# Altium integrated library Antennas.IntLib: 29 symbols
Pins are listed as number, name and electrical type; pins without a type are passive.

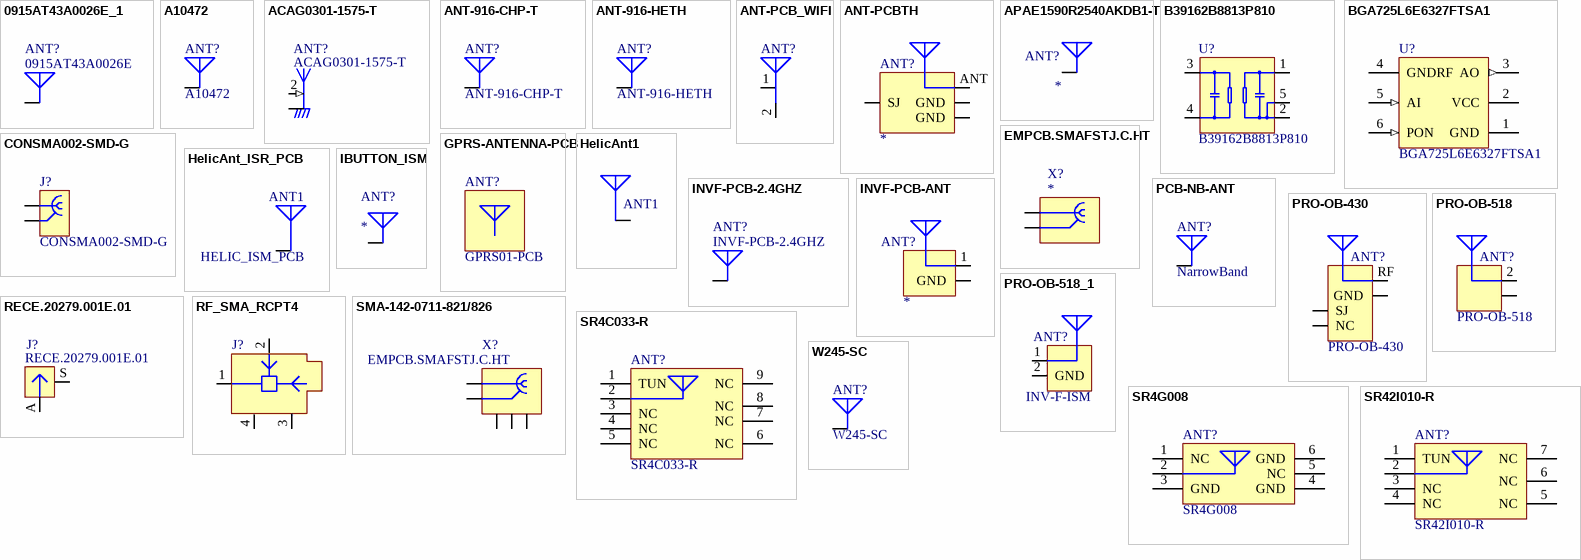
[diagram p0: symbols 0915AT43A0026E_1 to W245-SC]

## 0915AT43A0026E_1
designator ANT?, comment 0915AT43A0026E
JOHANSON TECHNOLOGY         0915AT43A0026E             ANTENNA, CERAMIC, 915MHZ; Frequency: 915; Impedance: 50; Power Rating: 2; Number of Bands: 1; Return Loss: -8.5; Gain: -4; Supplier 1: Digikey; Manufacturer: Johanson Technology; Manufacturer Part Number: 0915AT43A0026E; Stock 1: 220044; Pricing 1: 1=0.92, 10=0.814, 25=0.7356, 100=0.6435, 250=0.5647, 500=0.499 (USD); Case/Package: Ceramic; Package Quantity: 1; Packaging: Tape and Reel; Max Power Dissipation: 2; Termination: Solder; Length: 7; Height: 0.031; Width: 2; REACH SVHC: Unknown; ComponentLink1URL: https://datasheet.ciiva.com/24023/0915at43a0026-242364-24023185.pdf; ComponentLink1Description: https://datasheet.ciiva.com/24023/0915at43a0026-242364-24023185.pdf; ComponentLink2URL: https://datasheet.ciiva.com/1124/1318299-1124915.pdf; ComponentLink2Description: https://datasheet.ciiva.com/1124/1318299-1124915.pdf; Supplier Part Number 1: 712-1535-6-ND; Value: 0915AT43A0026E
footprint 0915AT43A0026E (RF CHIP ANTENNA 902 - 928MHZ)
pins: 1

## A10472
designator ANT?
Antennas KIRBii 868/915 MHz Chip Antenna; Manufacturer: Antenova; Frequency: 868 MHz, 915 MHz; Impedance: 50 Ohms; Polarization: Linear; Gain: 0.7 dB, 1.6 dB; VSWR: 1.2 : 1, 2.1 : 1; For Use With: ISM Applications; Product Status: Not Recommended for New Designs; Supplier 1: Mouser; Manufacturer Part Number: A10472; Category: Antennas; Stock 1: 4227; Pricing 1: 1=2.29, 10=1.85, 100=1.48, 500=1.30, 1000=1.04, 2500=0.969, 5000=0.933, 10000=0.897 (USD); Application: Remote monitoring, Sensors; Bandwidth: -; Cable Length: -; Diameter: -; Height: 3.2 mm; Length: 10 mm; Packaging: Cut Tape; Power Rating: -; Product: PCB Antenna; Series: Kirbii; Technology: Chip Antenna; Termination Style: SMD/SMT; Type: Ceramic; Width: 2 mm; Brand: Antenova; Mounting Style: SMD/SMT; Antenna Connector Type: -; Maximum Operating Temperature: + 85 C; Minimum Operating Temperature: - 40 C; Standard Pack Qty: 2500; Tradename: gigaNOVA; Minimum Order Quantity: 1; Reeling: True; ComponentLink1URL: http://www.mouser.com/ds/2/23/Kirbii-A10472-PS-5.1-1068327.pdf; ComponentLink1Description: http://www.mouser.com/ds/2/23/Kirbii-A10472-PS-5.1-1068327.pdf; Value: A10472; Supplier Part Number 1: 237-A10472
footprint A10472 (KIRBii 868/915 MHz Chip Antenna)
pins: 1

## ACAG0301-1575-T
designator ANT?
Antenna Chip 4.18dBi Gain 2-Pin Chip T/R; Manufacturer 1: Abracon; Number of Bands: 1; Supplier 1: Digi-Key; Manufacturer Part Number 1: ACAG0301-1575-T; Stock 1: 1272; Pricing 1: 1=1,36000, 10=1,21500, 25=1,15360, 100=0,94760, 250=0,88580, 500=0,78280, 1000=0,61800 (USD); RoHS: No; Mount: Surface Mount; Packaging: Cut Tape; Termination: Solder; ComponentLink1URL: https://abracon.com/datasheets/ACAG0301-1575-T.pdf?src-supplier=Digi-Key; ComponentLink1Description: https://abracon.com/datasheets/ACAG0301-1575-T.pdf?src-supplier=Digi-Key; Supplier Part Number 1: 535-14486-1-ND; Value: ACAG0301-1575-T
footprint ANT-ACAG0301-1575-T
pins: 1 2 (power), 2 1 (in), 3 2 (power)

## ANT-916-CHP-T
designator ANT?
CHIP 916MHZ CERAMIC SMD; Manufacturer: Linx Technologies Inc.; Frequency Group: UHF (300 MHz ~ 1 GHz); Frequency Range: 911MHz ~ 921MHz; VSWR: 2; Gain: 0.5dBi; Supplier 1: Digi-Key; Manufacturer Part Number: ANT-916-CHP-T; RoHS: RoHS Compliant; Category: RF/IF and RFID; Stock 1: 10496; Pricing 1: 1=4.96, 10=4.429, 25=3.986, 100=3.6318, 250=3.27748, 500=2.94086, 1000=2.48024 (USD); Packaging: Cut Tape (CT); Part Status: Active; Frequency (Center/Band): 916MHz; Antenna Type: Chip; Return Loss: -; Features: -; Termination: Solder; Ingress Protection: -; Mounting Type: Surface Mount; Height (Max): 0.067" (1.70mm); Applications: Bluetooth, Wi-Fi, Zigbee™; ComponentLink1URL: https://www.linxtechnologies.com/resources/data-guides/ant-xxx-chp-x.pdf; ComponentLink1Description: https://www.linxtechnologies.com/resources/data-guides/ant-xxx-chp-x.pdf; Supplier Part Number 1: ANT-916-CHP-TCT-ND; Value: ANT-916-CHP-T
footprint ANT-916-CHP-T (CHIP 916MHZ CERAMIC SMD)
pins: 1

## ANT-916-HETH
designator ANT?
ANTENNA 916MHZ THRU HOLE; Manufacturer: Linx; Bandwidth: 10MHz; Number of Bands: 1; Supplier 1: Digi-Key; Manufacturer Part Number: ANT-916-HETH; Stock 1: 7824; Pricing 1: 1=1.04, 25=0.96, 100=0.876 (USD); Mount: Through Hole; Frequency: 916MHz; Package Quantity: 100; Packaging: Bulk; Termination: Solder; Length: 1.5inch; Height: 0.35inch; Lead Free: Lead Free; ComponentLink1URL: http://www.antennafactor.com/resources/data-guides/ant-xxx-hexx.pdf; ComponentLink1Description: http://www.antennafactor.com/resources/data-guides/ant-xxx-hexx.pdf; ComponentLink2URL: https://www.linxtechnologies.com/resources/data-guides/ant-916-heth.pdf; ComponentLink2Description: https://www.linxtechnologies.com/resources/data-guides/ant-916-heth.pdf; ComponentLink3URL: https://www.linxtechnologies.com/resources/data-guides/ant-xxx-hexx.pdf; ComponentLink3Description: https://www.linxtechnologies.com/resources/data-guides/ant-xxx-hexx.pdf; Value: ANT-916-HETH; Supplier Part Number 1: ANT-916-HETH-ND
footprint ANT-916-HETH
footprint ANT-916-HETH - 90
footprint ANT-916-HETH - 90 - VERTICAL
pins: 1

## ANT-PCB_WIFI
designator ANT?, comment WifiEmbedded  (value not drawn)  (net tie, no BOM)
Antenna WiFi Embedded; Populated: No; Value: WifiEmbedded; ROHS: Yes
footprint ANT_SHADOW (Footprint not found)
pins: 1, 2

## ANT-PCBTH
designator ANT?
Internal PCB Cellular Antenna; Manuf1: Colcircuitos; Manuf1Partnumber: THRON-ANT-PCB; Populated: Yes; Value: *; ClassName: *; ROHS: Yes; HelpURL: *
footprint CANT
footprint CANT-R
footprint CANT - SMD
footprint GPRS_ANTENNA-PCB - IB1
pins: ANT, GS1 GND, GS2 GND, S SJ

## APAE1590R2540AKDB1-T
designator ANT?
GPS GLONASS PATCH 1575.42MHZ; Manufacturer: Abracon; Manufacturer Part Number: APAE1590R2540AKDB1-T; Impedance: 50R; Frequency: 1.608GHz; Bandwidth: 35MHz; Number of Bands: 2; Return Loss: -8dB; Supplier 1: Digi-Key; Stock 1: 8296; Pricing 1: 1=1.96, 10=1.772, 25=1.5824, 100=1.4243, 250=1.266, 500=1.1078, 1000=0.9179, 2500=0.8546, 5000=0.8229 (USD); Mount: Adhesive; Package Quantity: 50; Packaging: Tray; Resistance: 50R; Termination: Pin; Max Frequency: 1.608GHz; Length: 25mm; Height: 0.157inch; Width: 25mm; Radiation Hardening: No; Lead Free: Lead Free; ComponentLink1URL: https://datasheet.ciiva.com/6492/apae1590r2540akdb1-t-6492483.pdf; ComponentLink1Description: https://datasheet.ciiva.com/6492/apae1590r2540akdb1-t-6492483.pdf; ComponentLink2URL: https://datasheet.ciiva.com/12398/apae1590r2540akdb1-t-218145-12398375.pdf; ComponentLink2Description: https://datasheet.ciiva.com/12398/apae1590r2540akdb1-t-218145-12398375.pdf; Supplier Part Number 1: 535-11940-ND
footprint APAE1590R2540AKDB1-T
pins: 1

## B39162B8813P810
designator U?
SAW Filter 1582.47MHz 50Ohm SMD 5-Pin SMD; Manufacturer: TDK EPCOS; Load Impedance: 50R; Supplier 1: Digi-Key; Supplier Part Number 1: 495-7022-1-ND; Manufacturer Part Number: B39162B8813P810; Stock 1: 0; Mount: Surface Mount; Number of Pins: 5; Contact Plating: Nickel,Gold; Min Operating Temperature: -30°C; Max Operating Temperature: 85°C; Packaging: Tape and Reel; Length: 1.1mm; Radiation Hardening: No; Lead Free: Lead Free; ComponentLink1URL: http://www.epcos.com/inf/40/ds/mc/B8813.pdf; ComponentLink1Description: http://www.epcos.com/inf/40/ds/mc/B8813.pdf; Value: B39162B8813P810
footprint B39162B8813P810 (SAW GPS Filter)
pins: 1 INPUT, 2 GND, 3 GND, 4 OUTPUT, 5 GND

## BGA725L6E6327FTSA1
designator U?
GPS Amp Single Low Noise 1.615GHz 3.6V 6-Pin TSLP T/R; Manufacturer: Infineon; Max Power Dissipation: 72mW; Gain: 20dB; Frequency: -1.615GHz; Supplier 1: Digi-Key; Supplier Part Number 1: BGA725L6E6327FTSA1DKR-ND; Manufacturer Part Number: BGA725L6E6327FTSA1; Stock 1: 23538; Pricing 1: 1=0.4, 10=0.352, 25=0.3176, 100=0.2778, 250=0.2438, 500=0.21546, 1000=0.1701, 5000=0.15082 (USD); Number of Pins: 6; Package Quantity: 15000; Packaging: Tape and Reel; REACH SVHC: No SVHC; Lead Free: Lead Free; ComponentLink1URL: http://components.arrow.com/part/dataview/0323_05982851; ComponentLink1Description: http://components.arrow.com/part/dataview/0323_05982851; ComponentLink2URL: https://www.infineon.com/dgdl/BGA725L6_V2+0.pdf?folderId=db3a30431f848401011fcbf2ab4c04c4&fileId=db3a30433784a0400137ef9a4d341f23; ComponentLink2Description: https://www.infineon.com/dgdl/BGA725L6_V2+0.pdf?folderId=db3a30431f848401011fcbf2ab4c04c4&fileId=db3a30433784a0400137ef9a4d341f23; ComponentLink3URL: http://www.mouser.com/ds/2/196/BGA725L6_V2%200-360310.pdf; ComponentLink3Description: http://www.mouser.com/ds/2/196/BGA725L6_V2%200-360310.pdf; ComponentLink4URL: https://www.infineon.com/dgdl/Infineon-BGA725L6-DS-v02_00-en.pdf?fileId=db3a30433784a0400137ef9a4d341f23; ComponentLink4Description: https://www.infineon.com/dgdl/Infineon-BGA725L6-DS-v02_00-en.pdf?fileId=db3a30433784a0400137ef9a4d341f23; Value: BGA725L6E6327FTSA1
footprint TSLP-6-2 (TSLP 6-Leads, Body 0,70x1,10mm, Pitch 0,40mm, IPC High Density)
pins: 1 GND, 2 VCC, 3 AO (out), 4 GNDRF, 5 AI (in), 6 PON (in)

## CONSMA002-SMD-G
designator J?
CONSMA002-SMD-G Unchecked RF Connectors / Coaxial Connectors SMA Female Right Angle SMD-Gold RF / Coaxial Connectors 4,16000; Body Material: Brass; Body Plating: Gold; Connector Type: SMA,Socket; Dielectric Material: PTFE; Gender: Male; Impedance: 50R; Insulation Resistance: 5GR; Max Frequency: 18GHz; Polarity: Standard; Voltage Rating: 500V; Case/Package: SMA; Contact Material: Copper; Contact Plating: Gold; Fastening Type: Threaded; Housing Color: Gold; Lead Free: Lead Free; Max Operating Temperature: 165°C; Min Operating Temperature: -65°C; Mount: Surface Mount; Orientation: Right Angle; Package Quantity: 100; Packaging: Tray; Termination: Solder; Value: CONSMA002-SMD-G
footprint CONSMA002 - SMD (CONN SMA JACK STR 50 OHM PCB)
footprint CONSMA002 - SMD(V2) (CONN SMA JACK STR 50 OHM PCB)
pins: 1 (power), 2

## EMPCB.SMAFSTJ.C.HT
designator X?
CONN SMA JACK STR EDGE MNT; Manufacturer: Taoglas; Manufacturer Part Number: EMPCB.SMAFSTJ.C.HT; Body Material: Brass; Plating: Nickel; Dielectric Material: PTFE; Impedance: 50R; Voltage Rating: 335V; Connector Type: SMA,Socket; Polarity: Standard; Max Frequency: 12.4GHz; Insulation Resistance: 5GR; Supplier 1: Digi-Key; Stock 1: 1022; Pricing 1: 1=3.03, 100=2.961, 500=2.772, 1000=2.583, 2500=2.4045 (USD); Mount: Edge; Case/Package: SMA; Contact Material: Brass; Contact Plating: Gold; Body Plating: Nickel; Housing Colour: Silver; Package Quantity: 500; Fastening Type: Threaded; Packaging: Tray; Termination: Solder; Orientation: Straight; Frequency: 12.4GHz; ComponentLink1URL: https://datasheet.ciiva.com/12398/empcb-smafstj-c-ht-30838-12398136.pdf; ComponentLink1Description: https://datasheet.ciiva.com/12398/empcb-smafstj-c-ht-30838-12398136.pdf; ComponentLink2URL: https://datasheet.ciiva.com/7002/empcb-smafstj-c-ht-7002218.pdf; ComponentLink2Description: https://datasheet.ciiva.com/7002/empcb-smafstj-c-ht-7002218.pdf; Supplier Part Number 1: 931-1174-ND
footprint EMPCB.SMAFSTJ.C.HT
footprint 5-1814832-1 (CONN SMA JACK STR 50 OHM PCB)
pins: 1 GND (power), 2 1

## GPRS-ANTENNA-PCB
designator ANT?, comment GPRS01-PCB
Populated: Yes; Value: GPRS01-PCB
footprint GPRS_ANTENNA-PCB
footprint GPRS_ANTENNA-PCB-R
footprint GPRS_ANTENNA-PCB - SMD

## HelicAnt1
designator ANT1
footprint HELIC1
pins: 1 ANT

## HelicAnt_ISR_PCB
designator ANT1, comment HELIC_ISM_PCB
Value: HELIC_ISM_PCB
footprint HELIC_868/915 PCB
pins: 1 ANT

## IBUTTON_ISM
designator ANT?
footprint IBUTTON_ISM1
footprint IBUTTON_ISM2
footprint IBUTTON_ISM3
pins: 1

## INVF-PCB-2.4GHZ
designator ANT?  (no BOM)
INV-F PCB 2.4GHz; Case/Package: PCB; Frequency: 2.4Ghz; ComponentLink1URL: https://datasheet.ciiva.com/24023/0915at43a0026-242364-24023185.pdf; ComponentLink1Description: https://datasheet.ciiva.com/24023/0915at43a0026-242364-24023185.pdf; ComponentLink2URL: https://datasheet.ciiva.com/1124/1318299-1124915.pdf; ComponentLink2Description: https://datasheet.ciiva.com/1124/1318299-1124915.pdf; Value: INVF-PCB-2.4GHZ
footprint INVF_2.4GHz
pins: 1

## INVF-PCB-ANT
designator ANT?
Internal PCB Cellular Antenna; Manuf1: Colcircuitos; Manuf1Partnumber: INVF-PCB-ANT; Populated: Yes; Value: *; ClassName: *; ROHS: Yes; HelpURL: *
footprint INV-F-PCB-ISM (Inverted F Antenna 868/915 MHz)
pins: 1 ANT, 2 GND

## PCB-NB-ANT
designator ANT?, comment NarrowBand
Narrow Band antenna; Value: NarrowBand
footprint PCB_NB
pins: 1

## PRO-OB-430
designator ANT?
IC ANTENNA ONBOARD GPS SMD; Manufacturer: Proant AB; Frequency Group: UHF (1 GHz ~ 2 GHz); Frequency (Center/Band): 1.575GHz, 1.602GHz; Frequency Range: 1.575GHz ~ 1.602GHz; Antenna Type: Stamped Metal; Return Loss: -10dB; Manufacturer Part Number: PRO-OB-430; RoHS: RoHS Compliant; Category: RF/IF and RFID; Packaging: Cut Tape (CT); Part Status: Active; VSWR: -; Gain: -; Power - Max: -; Features: -; Termination: Solder; Ingress Protection: -; Mounting Type: Surface Mount; Height (Max): 0.130" (3.30mm); Applications: GLONASS, GPS; ComponentLink1URL: http://www.proant.se/files/user/Datasheet%20-%20OnBoard%20SMD%20GNSS%20rev%202.0.pdf; ComponentLink1Description: http://www.proant.se/files/user/Datasheet%20-%20OnBoard%20SMD%20GNSS%20rev%202.0.pdf; Value: PRO-OB-430; Supplier 1: Digi-Key; Supplier Part Number 1: 1532-1000-1-ND
footprint PRO-OB-430 (IC ANTENNA ONBOARD GPS SMD)
footprint PRO-OB-430 - duplicate
pins: GND, NC, NC1 SJ, RF ANT

## PRO-OB-518
designator ANT?
ON-BOARD ANT ISM 848/2400MHZ SMD; Manufacturer: Proant AB; Frequency Group: UHF (300 MHz ~ 1 GHz), UHF (2 GHz ~ 3 GHz); Frequency (Center/Band): 868MHz, 2.4GHz; Frequency Range: 860MHz ~ 870MHz, 2.4GHz ~ 2.5GHz; Antenna Type: Stamped Metal; Return Loss: -6dB; Supplier 1: Digi-Key; Manufacturer Part Number: PRO-OB-518; RoHS: RoHS Compliant; Category: RF/IF and RFID; Stock 1: 250; Pricing 1: 250=1.04884, 500=0.92688, 750=0.8098, 1250=0.73174, 2500=0.68296, 6250=0.64881, 12500=0.62442 (USD); Packaging: Tape & Reel (TR); Part Status: Active; VSWR: -; Gain: -; Power - Max: -; Features: -; Termination: Solder; Ingress Protection: -; Mounting Type: Surface Mount; Height (Max): 0.197" (5.00mm); Applications: 6LoWPAN, ZigBee™; ComponentLink1URL: http://www.proant.se/files/user/Datasheet%20-%20OnBoard%20SMD%20868-2400%20MHz%20rev%201.0.pdf; ComponentLink1Description: http://www.proant.se/files/user/Datasheet%20-%20OnBoard%20SMD%20868-2400%20MHz%20rev%201.0.pdf; Supplier Part Number 1: 1532-1015-2-ND; Value: PRO-OB-518
footprint PRO-OB-518 (Onboard™ SMD 868/2400 MHz Antenna)
pins: 1, 2 RF

## PRO-OB-518_1
designator ANT?, comment INV-F-ISM
868 MHz, 915 MHz and 955 MHz Inverted F Antenna PCB; Manufacturer: Colcircuitos; Frequency Group: UHF (300 MHz ~ 1 GHz), UHF (2 GHz ~ 3 GHz); Frequency Range: 860MHz ~ 870MHz, 2.4GHz ~ 2.5GHz; Antenna Type: PCB Inv-F; Manufacturer Part Number: INV-F-ISM; RoHS: RoHS Compliant; Frequency (Center/Band): 868MHz, 915MHz; Mounting Type: Surface Mount; Applications: ISM/SigFox/LoRa; Value: INV-F-ISM
footprint INV-F-PCB-ISM (Inverted F Antenna 868/915 MHz)
pins: 1 RF, 2 GND

## RECE.20279.001E.01
designator J?
CONN UMC RCPT STR 50 OHM SMD; Manufacturer: Taoglas Limited; Connector Style: Ultra Miniature Coaxial, IPEX MHF1; Connector Type: Receptacle, Male Pin; Contact Termination: Solder; Impedance: 50 Ohm; Frequency - Max: 6GHz; Body Material: Brass; Body Finish: Gold; Dielectric Material: Liquid Crystal Polymer (LCP); Supplier 1: Digi-Key; Manufacturer Part Number: RECE.20279.001E.01; RoHS: RoHS Compliant; Category: Connectors, Interconnects; Stock 1: 44996; Pricing 1: 1=0.77 (USD); Packaging: Cut Tape (CT); Part Status: Active; Shield Termination: Solder; Mounting Type: Surface Mount; Mounting Feature: -; Cable Group: -; Fastening Type: Snap-On; Features: -; Housing Color: White; Ingress Protection: -; Includes: -; Center Contact Plating: Gold; Operating Temperature: -40°C ~ 90°C; Center Contact Material: Brass; Voltage Rating: -; Mating Cycles: -; Insertion Loss: -; ComponentLink1URL: http://www.taoglas.com/wp-content/uploads/2016/04/RECE.20279.001E.01.pdf; ComponentLink1Description: http://www.taoglas.com/wp-content/uploads/2016/04/RECE.20279.001E.01.pdf; Supplier Part Number 1: 931-1107-1-ND; Value: RECE.20279.001E.01
footprint IPEX
pins: A, S

## RF_SMA_RCPT4
designator J?, comment MM8030-2610RJ3  (value not drawn)
Conn, Coax, Switch, Rcpt, 2 x 2mm, SMD; Manuf1: Murata; Populated: Yes; Supplier 1: Digi-Key; Supplier Part Number 1: 490-5907-1-ND; Supplier Price 1: 0.2448; ComponentLink1URL: http://www.digikey.com/product-detail/en/MM8030-2610RJ3/490-5907-1-ND/3635133; Manuf1Partnumber: MM8030-2610RJ3; Value: MM8030-2610RJ3; ROHS: Yes
footprint MM8030-26
pins: 1 OUT, 2 IN, 3 SHIELD, 4 SHIELD

## SMA-142-0711-821/826
designator X?, comment EMPCB.SMAFSTJ.C.HT
SMA 50 Ohm End Launch Jack ReceptacleSMA 50 Ohm End Launch Jack Receptacle - Round Contact; Manuf1: Taoglas Limited; Populated: Yes; Value: EMPCB.SMAFSTJ.C.HT; Manuf1Partnumber: EMPCB.SMAFSTJ.C.HT; ROHS: Yes; Supplier 1: Digi-Key; Supplier Part Number 1: 931-1174-ND; ClassName: *; Code_JEDEC: *; HelpURL: *
footprint J502-ND-142-0711-821/826
pins: 1, G@1 GND (power), G@2 GND@1 (power), G@3 GND@2 (power), G@4 GND@3 (power)

## SR4C033-R
designator ANT?
Antennas NB-IoT/LP-WAN Right Antenna; Manufacturer: Antenova; Frequency: 791 MHz to 960 MHz; Impedance: 50 Ohms; Polarization: Linear; Gain: 0.8 dBi; VSWR: 2.6:1; Product Status: New Product; Supplier 1: Mouser; Manufacturer Part Number: SR4C033-R; RoHS: RoHS Compliant; Category: Antennas; Stock 1: 603; Pricing 1: 1=2.87, 10=2.31, 100=1.85, 500=1.61, 1000=1.30, 2000=1.21, 5000=1.16, 10000=1.12 (USD); Application: WP-LAN; Frequency Range: 791 MHz to 960 MHz; Height: 1.6 mm; Length: 20 mm; Packaging: Cut Tape; Product: PCB Antenna; Technology: M2M Antenna; Termination Style: SMD/SMT; Width: 11 mm; Brand: Antenova; Mounting Style: SMD/SMT; Maximum Operating Temperature: + 140 C; Minimum Operating Temperature: - 40 C; Standard Pack Qty: 1000; RoHS - Mouser: Y; Minimum Order Quantity: 1; Reeling: True; ComponentLink1URL: http://www.mouser.com/ds/2/23/Latona-SR4C033-PS-1.0-1100683.pdf; ComponentLink1Description: http://www.mouser.com/ds/2/23/Latona-SR4C033-PS-1.0-1100683.pdf; Supplier Part Number 1: 237-SR4C033-R; Value: SR4C033-R
footprint SR4C033-R
pins: 1 TUN, 2 FEED, 3 NC, 4 NC, 5 NC, 6 NC, 7 NC, 8 NC, 9 NC

## SR4G008
designator ANT?
ANT RF SINICA GNSS 1559-1609MHZ; Manufacturer: Antenova; Frequency Group: UHF (1 GHz ~ 2 GHz); Frequency (Center/Band): 1.561GHz, 1.575GHz, 1.602GHz; Frequency Range: 1.559GHz ~ 1.609GHz; Antenna Type: Chip; VSWR: 1.4; Return Loss: -12dB; Gain: 3dBi; Supplier 1: Digi-Key; Manufacturer Part Number: SR4G008; RoHS: RoHS Compliant; Category: RF/IF and RFID; Stock 1: 2920; Pricing 1: 1=3.08, 10=2.778, 25=2.4808, 100=2.2326, 250=1.98452, 500=1.73644 (USD); Packaging: Cut Tape (CT); Part Status: Active; Features: -; Termination: Solder; Ingress Protection: -; Mounting Type: Surface Mount; Height (Max): 0.015" (0.40mm); Applications: Beidou, Galileo, GLONASS, GPS; ComponentLink1URL: http://www.antenova-m2m.com/wp-content/uploads/2015/11/Sinica-GNSS-SR4G008-PS-1.1.pdf; ComponentLink1Description: http://www.antenova-m2m.com/wp-content/uploads/2015/11/Sinica-GNSS-SR4G008-PS-1.1.pdf; Value: SR4G008; Supplier Part Number 1: 627-1063-1-ND
footprint SR4G008
pins: 1 NC, 2 FEED, 3 GND, 4 GND, 5 NC, 6 GND

## SR42I010-R
designator ANT?
Antennas 863-870 & 902-928MHz Right Antenna; Manufacturer: Antenova; Frequency: 863 MHz to 928 MHz; Impedance: 50 Ohms; Polarization: Linear; Gain: 0.2 dB, 0.4 dB; VSWR: 3.1:1; Product Status: New Product; Supplier 1: Mouser; Manufacturer Part Number: SR42I010-R; RoHS: RoHS Compliant; Category: Antennas; Stock 1: 694; Pricing 1: 1=2.36, 10=1.90, 100=1.52, 500=1.33, 1000=1.07, 2000=0.996, 5000=0.959, 10000=0.922 (USD); Height: 1.7 mm; Length: 12 mm; Product: PCB Antenna; Series: SR42I010; Technology: Chip Antenna; Termination Style: SMD/SMT; Type: Antenna for ISM Applications; Width: 11 mm; Brand: Antenova; Mounting Style: SMD/SMT; Maximum Operating Temperature: + 140 C; Minimum Operating Temperature: - 40 C; Standard Pack Qty: 1000; Tradename: Grandis; RoHS - Mouser: Y; Minimum Order Quantity: 1; Reeling: False; ComponentLink1URL: http://www.mouser.com/ds/2/23/Grandis-SR42I010-PS-1.0-1114966.pdf; ComponentLink1Description: http://www.mouser.com/ds/2/23/Grandis-SR42I010-PS-1.0-1114966.pdf; Supplier Part Number 1: 237-SR42I010-R; Value: SR42I010-R
footprint SR42I010-R (863-870 & 902-928MHz Right Antenna)
pins: 1 TUN, 2 FEED, 3 NC, 4 NC, 5 NC, 6 NC, 7 NC

## W245-SC
designator ANT?
DUAL BAND CHIP ANTENNA; Manufacturer: Inventek Systems; Frequency Group: UHF (2 GHz ~ 3 GHz), SHF (f > 4 GHz); Frequency (Center/Band): 2.4GHz, 5.5GHz; Frequency Range: 2.4GHz ~ 2.5GHz, 5.15GHz ~ 5.85GHz; VSWR: 2; Gain: 2.3dBi; Supplier 1: Digi-Key; Manufacturer Part Number: W245-SC; RoHS: RoHS Compliant; Category: WiFi; Stock 1: 10496; Pricing 1: 1=4.96, 10=4.429, 25=3.986, 100=3.6318, 250=3.27748, 500=2.94086, 1000=2.48024 (USD); Packaging: Cut Tape (CT); Part Status: Active; Antenna Type: Chip; Return Loss: -; Features: -; Termination: Solder; Ingress Protection: -; Mounting Type: Surface Mount; Height (Max): 0.067" (1.70mm); Applications: Wi-Fi; ComponentLink1URL: https://www.linxtechnologies.com/resources/data-guides/ant-xxx-chp-x.pdf; ComponentLink1Description: https://www.linxtechnologies.com/resources/data-guides/ant-xxx-chp-x.pdf; Supplier Part Number 1: 1475-1054-1-ND; Value: W245-SC
footprint 3216 (SMD Chip antenna 3.2x1.6mm)
pins: 1